# EAGLE library part PCF8574 (library SquantorNxp)
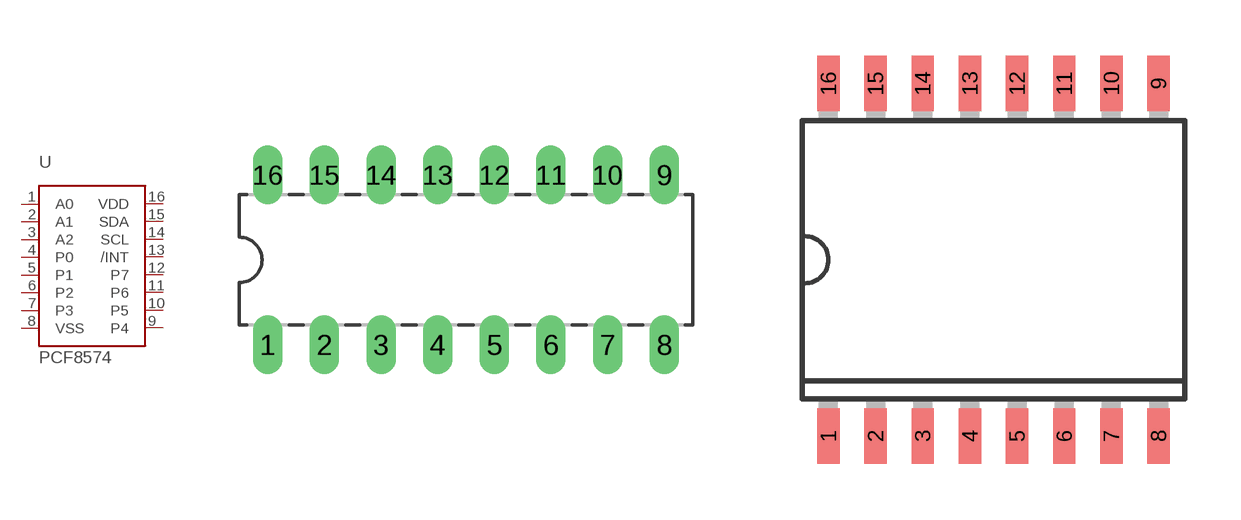
[diagram p7: symbol with the pads of SOT38; footprints SOT38, SOT162-1]

Designator prefix -

## PCF8574DIP16  [SOT38]
1  A0
2  A1
3  A2
4  P0
5  P1
6  P2
7  P3
8  VSS
9  P4
10  P5
11  P6
12  P7
13  /INT
14  SCL
15  SDA
16  VDD

## PCF8574SO16  [SOT162-1]
Pads as for SOT38

## PCF8574SSOP20  [SOT266]
1  /INT
2  SCL
4  SDA
5  VDD
6  A0
7  A1
9  A2
10  P0
11  P1
12  P2
14  P3
15  VSS
16  P4
17  P5
19  P6
20  P7

## Footprint SOT38 (pad centres in mm)
Dual In Line Package
drill 0.813 long: 1 -8.89,-3.81; 2 -6.35,-3.81; 3 -3.81,-3.81; 4 -1.27,-3.81; 5 1.27,-3.81; 6 3.81,-3.81; 7 6.35,-3.81; 8 8.89,-3.81; 9 8.89,3.81; 10 6.35,3.81; 11 3.81,3.81; 12 1.27,3.81; 13 -1.27,3.81; 14 -3.81,3.81; 15 -6.35,3.81; 16 -8.89,3.81

## Footprint SOT162-1 (pad centres in mm)
SOT162-1 SO16: plastic small outline package; 16 leads; body width 7.5 mm JEDEC: -- IEC: --
smd 0.6 x 1.5: 1 -4.445,-4.75; 2 -3.175,-4.75; 3 -1.905,-4.75; 4 -0.635,-4.75; 5 0.635,-4.75; 6 1.905,-4.75; 7 3.175,-4.75; 8 4.445,-4.75; 9 4.445,4.75; 10 3.175,4.75; 11 1.905,4.75; 12 0.635,4.75; 13 -0.635,4.75; 14 -1.905,4.75; 15 -3.175,4.75; 16 -4.445,4.75

## Footprint SOT266 (pad centres in mm)
SOT266 SSOP20: plastic shrink small outline package; 20 leads; body width 4.4 mm JEDEC: MO-152 IEC: --
smd 0.4 x 1: 1 -2.925,-2.9; 2 -2.275,-2.9; 3 -1.625,-2.9; 4 -0.975,-2.9; 5 -0.325,-2.9; 6 0.325,-2.9; 7 0.975,-2.9; 8 1.625,-2.9; 9 2.275,-2.9; 10 2.925,-2.9; 11 2.925,2.9; 12 2.275,2.9; 13 1.625,2.9; 14 0.975,2.9; 15 0.325,2.9; 16 -0.325,2.9; 17 -0.975,2.9; 18 -1.625,2.9; 19 -2.275,2.9; 20 -2.925,2.9